# Altium footprint library RC0100.PcbLib: 1 footprints
Each footprint in its own frame and in the unit in brackets; x right, y up, seen from the top. Pads: shape width x height; smd on the part's side, far side on the other; paste and mask are expansions set on the pad; w line width, h text height; cw(c..) or ccw(c..) is an arc to the next point about the centre after c.
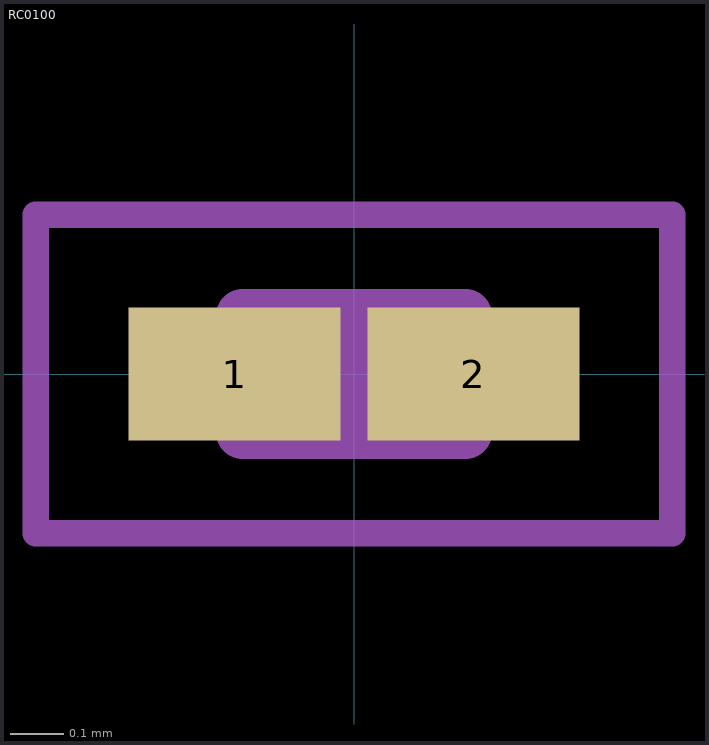
[diagram p0: the footprint, top view; thin cyan lines are the x and y axes]

## RC0100 [mm] "Chip Resistor, 2-Leads, Body 0,40x0,20mm, IPC Medium Density"
height 0.15
pads (2):
  rect 0.4x0.25 smd: 1(-0.225,0) 2(0.225,0)
Mechanical 7:
  text ".Comment" at -0.254,0.381 h1.2
Mechanical 9 (Mech9):
  text ".Designator" at 0.635,0.381 h1.2
Mechanical 13:
  lines w0.1: -0.21,-0.11 0.21,-0.11 0.21,0.11 -0.21,0.11 -0.21,-0.11
Mechanical 15:
  lines w0.05: -0.6,-0.3 0.6,-0.3 0.6,0.3 -0.6,0.3 -0.6,-0.3
  lines w0.1: -0.11,0 0.11,0 ; 0,-0.11 0,0.11
3D body: height 0.15, standoff 0, extent 0.11,-0.11 0.21,0.11
3D body: height 0.15, standoff 0, extent -0.21,-0.11 -0.11,0.11
3D body: height 0.15, standoff 0, extent -0.11,-0.11 0.11,0.11